# Altium footprint library RCDQLY.PCBLIB: 125 footprints (part 4 of 8)
Each footprint in its own frame and in the unit in brackets; x right, y up, seen from the top. Pads: shape width x height; smd on the part's side, far side on the other; paste and mask are expansions set on the pad; w line width, h text height; cw(c..) or ccw(c..) is an arc to the next point about the centre after c.
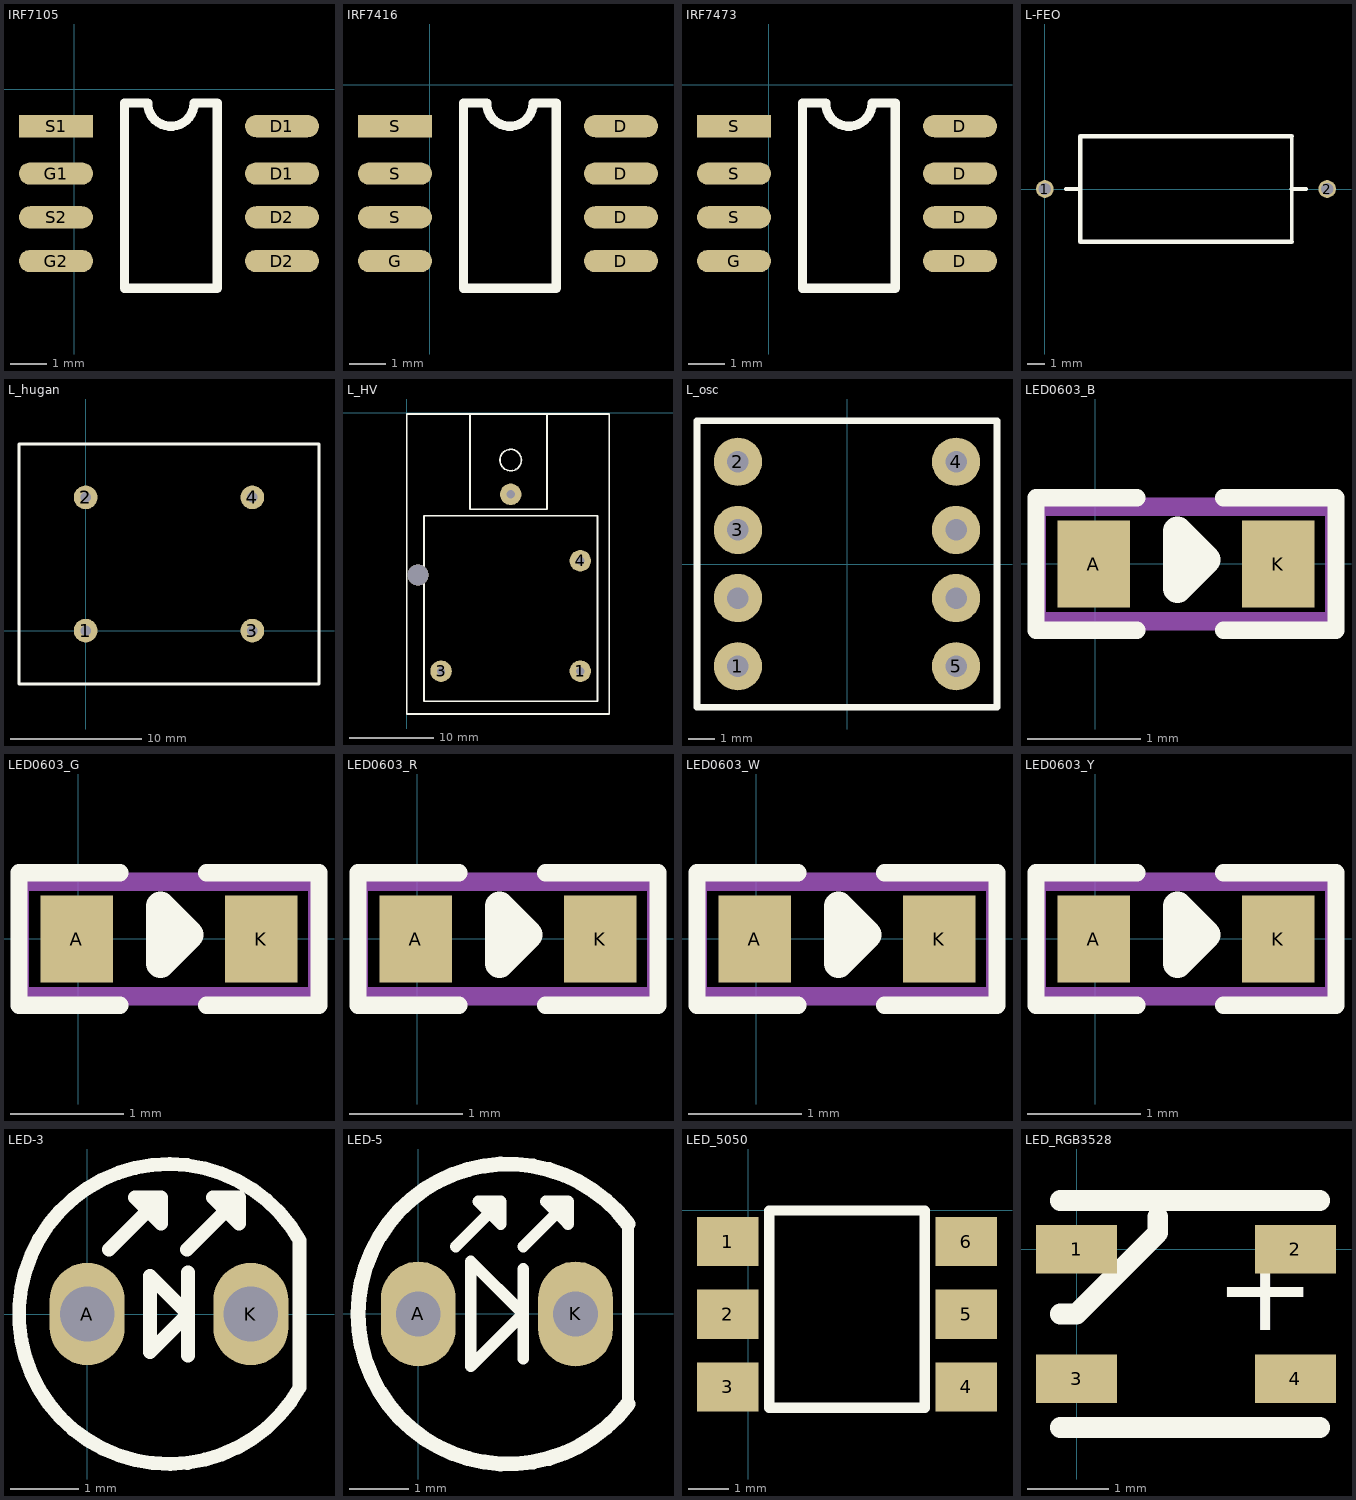
[diagram p3: the footprints below, top view; thin cyan lines are the x and y axes]

## IRF7105 [mil]
pads (8):
  oval 80x24 smd: D1(224.41,-91.18) D1(224.41,-40) D2(224.41,-185.67) D2(224.41,-138.43) G1(-19.68,-91.18) G2(-19.68,-185.67) S2(-19.68,-138.43)
  rect 80x24 smd: S1(-19.68,-40)
TopOverlay:
  lines w10: 54.39,-215.06 154.39,-215.06 154.39,-15.06 129.39,-15.06 cw(c104.39,-15.06) 79.39,-15.06 54.39,-15.06 54.39,-215.06

## IRF7416 [mil]
pads (8):
  oval 80x24 smd: D(206.41,-190.67) D(206.41,-143.43) D(206.41,-96.18) D(206.41,-45) G(-37.69,-190.67) S(-37.69,-143.43) S(-37.69,-96.18)
  rect 80x24 smd: S(-37.69,-45)
TopOverlay:
  lines w10: 36.39,-220.06 136.39,-220.06 136.39,-20.06 111.39,-20.06 cw(c86.39,-20.06) 61.39,-20.06 36.39,-20.06 36.39,-220.06

## IRF7473 [mil]
pads (8):
  oval 80x24 smd: D(206.41,-190.67) D(206.41,-143.43) D(206.41,-96.18) D(206.41,-45) G(-37.69,-190.67) S(-37.69,-143.43) S(-37.69,-96.18)
  rect 80x24 smd: S(-37.69,-45)
TopOverlay:
  lines w10: 36.39,-220.06 36.39,-20.06 61.39,-20.06 ccw(c86.39,-20.06) 111.39,-20.06 136.39,-20.06 136.39,-220.06 36.39,-220.06

## L-FEO [mm]
pads (2):
  round 1 hole 0.7: 1(0,0) 2(16,0)
TopOverlay:
  lines w0.2: 14,-3 14,3
  lines w0.254: 1.2,0 2,0 ; 14,-3 2,-3 2,3 14,3 ; 14,0 14.8,0

## L_hugan [mm]
pads (4):
  round 1.8 hole 0.8: 1(0,0) 2(0,10.16) 3(12.7,0) 4(12.7,10.16)
TopOverlay:
  lines w0.254: -5.08,-4.064 17.78,-4.064 17.78,14.224 -5.08,14.224 -5.08,-4.064

## L_HV [mil]
pads (4):
  round 100 hole 39: 1(810,-1205) 3(160,-1205) 4(810,-690) ""(485,-380)
via 52,-757 diameter 98 hole 98
TopOverlay:
  circle w8: c485,-220 r50
  lines w8: 295,-5 295,-450 655,-450 655,-5 ; 0,-1405 945,-1405 945,-5 0,-5 0,-1405 ; 80,-1345 890,-1345 890,-480 80,-480 80,-1345

## L_osc [mm]
pads (8):
  round 1.8 hole 0.8: 1(-4.064,-3.81) 2(-4.064,3.81) 3(-4.064,1.27) 4(4.064,3.81) 5(4.064,-3.81) ""(-4.064,-1.27) ""(4.064,-1.27) ""(4.064,1.27)
TopOverlay:
  lines w0.254: -5.588,-5.334 -5.588,5.334 5.588,5.334 5.588,-5.334 -5.588,-5.334

## LED0603_B [mil]
pads (2):
  rect 25x30 smd: A(-0.51,-0.01) K(63.49,-0.01)
TopOverlay:
  lines w6: 14.49,-23.01 -20.51,-23.01 -20.51,22.99 14.49,22.99 ; 44.49,-23.01 83.49,-23.01 83.49,22.99 44.49,22.99
  lines w10: 28.5,-8.51 28.5,11.49 38.5,1.49 28.5,-8.51
Mechanical13:
  lines w6: -20.01,-20.01 82.67,-20.01 82.67,19.99 -20.01,19.99 -20.01,-20.01
  text ".Designator" at -7.88,-7.87 h20
Mechanical15:
  lines w6: -20.01,-19.69 -20.01,19.68 82.67,19.68 82.67,-19.69 -20.01,-19.69
  text ".Comment" at -7.88,-7.87 h20
3D body "User Library-LED_0603_B.STEP": height 23.62, standoff -0.08, extent 0.01,-15.74 63,15.75

## LED0603_G [mil]
pads (2):
  rect 25x30 smd: A(-0.51,-0.01) K(63.49,-0.01)
TopOverlay:
  lines w6: 14.49,-23.01 -20.51,-23.01 -20.51,22.99 14.49,22.99 ; 44.49,-23.01 83.49,-23.01 83.49,22.99 44.49,22.99
  lines w10: 28.5,-8.51 28.5,11.49 38.5,1.49 28.5,-8.51
Mechanical13:
  lines w6: -20.01,-20.01 82.67,-20.01 82.67,19.99 -20.01,19.99 -20.01,-20.01
  text ".Designator" at -7.88,-7.87 h20
Mechanical15:
  lines w6: -20.01,-19.69 -20.01,19.68 82.67,19.68 82.67,-19.69 -20.01,-19.69
  text ".Comment" at -7.88,-7.87 h20
3D body "User Library-LED_0603_G.STEP": height 23.62, standoff -0.08, extent 0.01,-15.74 63,15.75

## LED0603_R [mil]
pads (2):
  rect 25x30 smd: A(-0.51,-0.01) K(63.49,-0.01)
TopOverlay:
  lines w6: 14.49,-23.01 -20.51,-23.01 -20.51,22.99 14.49,22.99 ; 44.49,-23.01 83.49,-23.01 83.49,22.99 44.49,22.99
  lines w10: 28.5,-8.51 28.5,11.49 38.5,1.49 28.5,-8.51
Mechanical13:
  lines w6: -20.01,-20.01 82.67,-20.01 82.67,19.99 -20.01,19.99 -20.01,-20.01
  text ".Designator" at -7.88,-7.87 h20
Mechanical15:
  lines w6: -20.01,-19.69 -20.01,19.68 82.67,19.68 82.67,-19.69 -20.01,-19.69
  text ".Comment" at -7.88,-7.87 h20
3D body "User Library-LED_0603_R.STEP": height 23.62, standoff -0.08, extent 0,-15.75 63,15.75

## LED0603_W [mil]
pads (2):
  rect 25x30 smd: A(-0.51,-0.01) K(63.49,-0.01)
TopOverlay:
  lines w6: 14.49,-23.01 -20.51,-23.01 -20.51,22.99 14.49,22.99 ; 44.49,-23.01 83.49,-23.01 83.49,22.99 44.49,22.99
  lines w10: 28.5,-8.51 28.5,11.49 38.5,1.49 28.5,-8.51
Mechanical13:
  lines w6: -20.01,-20.01 82.67,-20.01 82.67,19.99 -20.01,19.99 -20.01,-20.01
  text ".Designator" at -7.88,-7.87 h20
Mechanical15:
  lines w6: -20.01,-19.69 -20.01,19.68 82.67,19.68 82.67,-19.69 -20.01,-19.69
  text ".Comment" at -7.88,-7.87 h20
3D body "User Library-LED_0603_WS.STEP": height 23.62, standoff -0.08, extent 0.01,-15.74 63,15.75

## LED0603_Y [mil]
pads (2):
  rect 25x30 smd: A(-0.51,-0.01) K(63.49,-0.01)
TopOverlay:
  lines w6: 14.49,-23.01 -20.51,-23.01 -20.51,22.99 14.49,22.99 ; 44.49,-23.01 83.49,-23.01 83.49,22.99 44.49,22.99
  lines w10: 28.5,-8.51 28.5,11.49 38.5,1.49 28.5,-8.51
Mechanical13:
  lines w6: -20.01,-20.01 82.67,-20.01 82.67,19.99 -20.01,19.99 -20.01,-20.01
  text ".Designator" at -7.88,-7.87 h20
Mechanical15:
  lines w6: -20.01,-19.69 -20.01,19.68 82.67,19.68 82.67,-19.69 -20.01,-19.69
  text ".Comment" at -7.88,-7.87 h20
3D body "User Library-LED_0603_Y.STEP": height 23.62, standoff -0.08, extent 0.01,-15.74 63,15.75

## LED-3 [mm]
pads (2):
  oval 1.1x1.5 hole 0.8: A(0,0) K(2.4,0)
TopOverlay:
  lines w0.203: 0.322,0.946 1.084,1.708 ; 1.465,0.946 2.227,1.708 ; 1.479,-0.61 1.479,0.61 ; 3.116,-1.073 3.116,1.082 ccw(c1.2,0) 3.119,-1.076 ; 1.084,1.708 0.703,1.708 1.084,1.327 1.084,1.708 ; 2.227,1.708 2.227,1.327 1.846,1.708 2.227,1.708 ; 0.921,-0.559 1.479,0 0.921,0.559 0.921,-0.559

## LED-5 [mil]
pads (2):
  oval 50x70 hole 30: A(0,0) K(105,0)
TopOverlay:
  lines w7.78: 25,45 55,75 ; 70,-30 70,30 ; 70,45 100,75 ; 140,-60.15 140,60 ; 55,75 55,60 40,75 55,75 ; 100,75 100,60 85,75 100,75 ; 35,-35 35,35 70,0 35,-35
  lines w10: 140,-60.15 cw(c59.9,-0.07) 140,60

## LED_5050 [mm]
pads (6):
  rect 1.5x1.2 smd: 1(-0.508,-0.762) 2(-0.508,-2.54) 3(-0.508,-4.318) 4(5.334,-4.318) 5(5.334,-2.54) 6(5.334,-0.762)
TopOverlay:
  lines w0.254: 0.508,-4.826 4.318,-4.826 4.318,0 0.508,0 0.508,-4.826

## LED_RGB3528 [mm]
pads (4):
  rect 1x0.6 smd: 1(0,0) 2(2.7,0) 3(0,-1.6) 4(2.7,-1.6)
TopOverlay:
  lines w0.254: -0.2,-2.2 3,-2.2 ; -0.2,-0.8 0,-0.8 1,0.2 1,0.4 ; -0.2,0.6 3,0.6
  text "+" at 1.7,-1 h1.1
Mechanical13:
  text ".Designator" at -0.254,-1.054 h0.51
Mechanical15:
  text ".Comment" at -0.254,-1.054 h0.51
3D body "LED3528.step": height 1.8, standoff 0, extent -0.375,-2.2 3.125,0.6